# Altium footprint library SOP65P640X160-16N.PcbLib: 1 footprints
Each footprint in its own frame and in the unit in brackets; x right, y up, seen from the top. Pads: shape width x height; smd on the part's side, far side on the other; paste and mask are expansions set on the pad; w line width, h text height; cw(c..) or ccw(c..) is an arc to the next point about the centre after c.
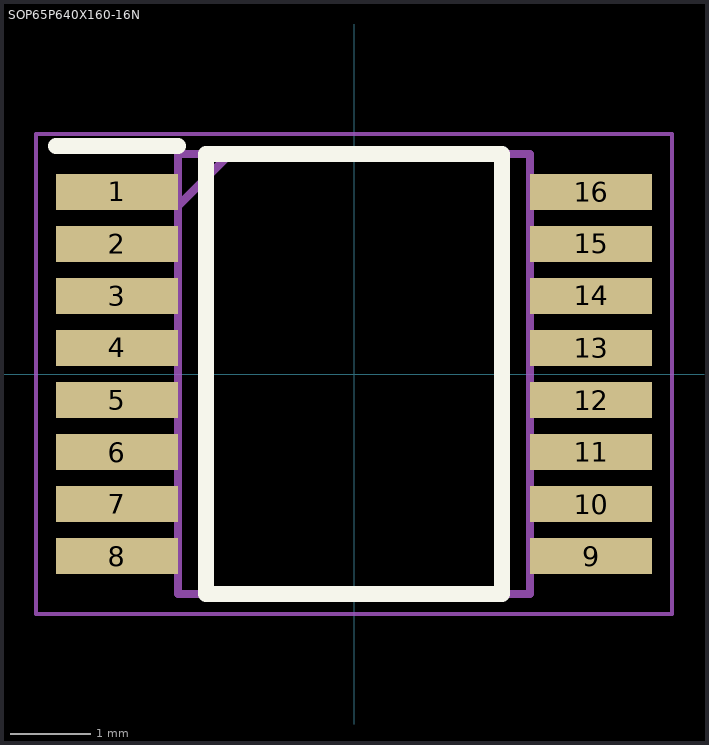
[diagram p0: the footprint, top view; thin cyan lines are the x and y axes]

## SOP65P640X160-16N [mm]
pads (16):
  rect 1.525x0.45 smd: 1(-2.962,2.275) 2(-2.962,1.625) 3(-2.962,0.975) 4(-2.962,0.325) 5(-2.962,-0.325) 6(-2.962,-0.975) 7(-2.962,-1.625) 8(-2.962,-2.275) 9(2.962,-2.275) 10(2.962,-1.625) 11(2.962,-0.975) 12(2.962,-0.325) 13(2.962,0.325) 14(2.962,0.975) 15(2.962,1.625) 16(2.962,2.275)
Top Overlay:
  lines w0.2: -3.725,2.85 -2.2,2.85 ; -1.85,-2.75 1.85,-2.75 1.85,2.75 -1.85,2.75 -1.85,-2.75
Mechanical 15:
  lines w0.1: -2.2,2.1 -1.55,2.75 ; -2.2,-2.75 2.2,-2.75 2.2,2.75 -2.2,2.75 -2.2,-2.75
Mechanical 20:
  lines w0.05: -3.975,-3 3.975,-3 3.975,3 -3.975,3 -3.975,-3